# EAGLE library part SSW-126-02-S-S (library con-samtec)
THROUGH-HOLE .025" SQ POST SOCKET Source: Samtec SSW.pdf
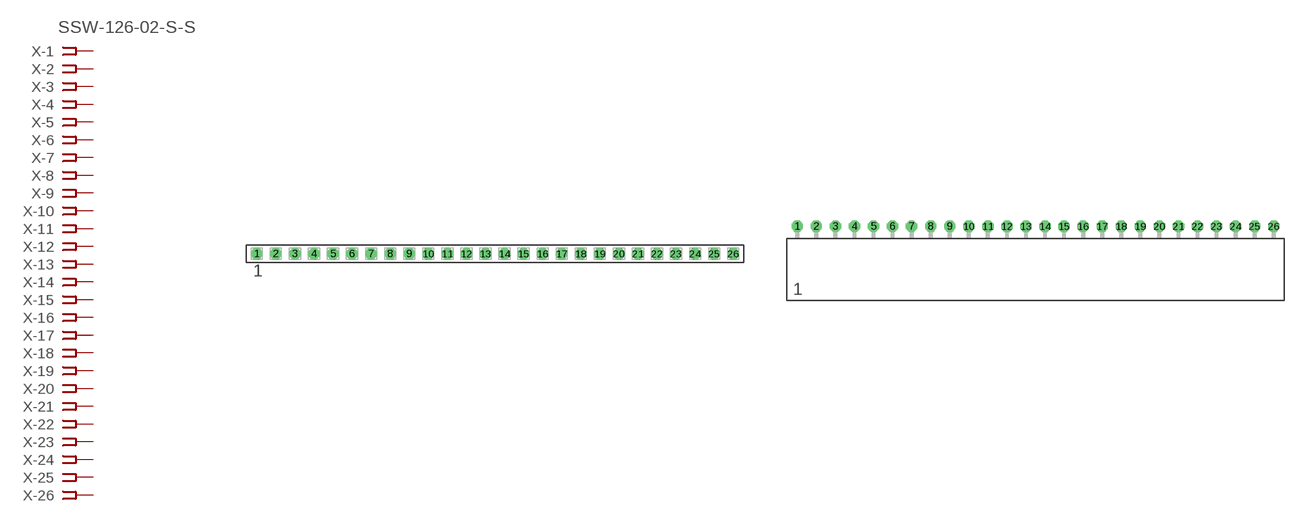
[diagram p78: symbol with the pads of SSW-126-02-S-S; footprints SSW-126-02-S-S, SSW-126-02-S-S-RA]

Designator prefix X; gates -1=FPINV -2=FPIN -3=FPIN -4=FPIN -5=FPIN -6=FPIN -7=FPIN -8=FPIN -9=FPIN -10=FPIN -11=FPIN -12=FPIN -13=FPIN -14=FPIN -15=FPIN -16=FPIN -17=FPIN -18=FPIN -19=FPIN -20=FPIN -21=FPIN -22=FPIN -23=FPIN -24=FPIN -25=FPIN -26=FPIN

## SSW-126-02-S-S (MPN: SSW-126-02-S-S; OC_FARNELL: unknown; OC_NEWARK: 11P9742)  [SSW-126-02-S-S]
1  -1:1  pas
2  -2:1  pas
3  -3:1  pas
4  -4:1  pas
5  -5:1  pas
6  -6:1  pas
7  -7:1  pas
8  -8:1  pas
9  -9:1  pas
10  -10:1  pas
11  -11:1  pas
12  -12:1  pas
13  -13:1  pas
14  -14:1  pas
15  -15:1  pas
16  -16:1  pas
17  -17:1  pas
18  -18:1  pas
19  -19:1  pas
20  -20:1  pas
21  -21:1  pas
22  -22:1  pas
23  -23:1  pas
24  -24:1  pas
25  -25:1  pas
26  -26:1  pas

## SSW-126-02-S-S-RA (MPN: SSW-126-02-S-S-RA; OC_FARNELL: unknown; OC_NEWARK: 11P9743)  [SSW-126-02-S-S-RA]
Pads as for SSW-126-02-S-S

## Footprint SSW-126-02-S-S (pad centres in mm)
THROUGH-HOLE .025" SQ POST SOCKET Source: Samtec SSW.pdf
drill 1 pad 1.5 octagon: 1 -31.75,0; 2 -29.21,0; 3 -26.67,0; 4 -24.13,0; 5 -21.59,0; 6 -19.05,0; 7 -16.51,0; 8 -13.97,0; 9 -11.43,0; 10 -8.89,0; 11 -6.35,0; 12 -3.81,0; 13 -1.27,0; 14 1.27,0; 15 3.81,0; 16 6.35,0; 17 8.89,0; 18 11.43,0; 19 13.97,0; 20 16.51,0; 21 19.05,0; 22 21.59,0; 23 24.13,0; 24 26.67,0; 25 29.21,0; 26 31.75,0

## Footprint SSW-126-02-S-S-RA (pad centres in mm)
THROUGH-HOLE .025" SQ POST SOCKET Source: Samtec SSW.pdf
drill 1 pad 1.5 octagon: 1 -31.75,1.524; 2 -29.21,1.524; 3 -26.67,1.524; 4 -24.13,1.524; 5 -21.59,1.524; 6 -19.05,1.524; 7 -16.51,1.524; 8 -13.97,1.524; 9 -11.43,1.524; 10 -8.89,1.524; 11 -6.35,1.524; 12 -3.81,1.524; 13 -1.27,1.524; 14 1.27,1.524; 15 3.81,1.524; 16 6.35,1.524; 17 8.89,1.524; 18 11.43,1.524; 19 13.97,1.524; 20 16.51,1.524; 21 19.05,1.524; 22 21.59,1.524; 23 24.13,1.524; 24 26.67,1.524; 25 29.21,1.524; 26 31.75,1.524